# Altium schematic symbol library PD_Decoy.SchLib: 1 symbol
Pins are listed as number, name and electrical type; pins without a type are passive.

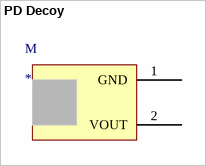
[diagram p0: symbol PD Decoy]

## PD Decoy
designator M
pins: 1 GND, 2 VOUT